# Altium schematic symbol library SCH - POWER - SWITCHMODE - 3PEAK TPP60508.SchLib: 1 symbol
Pins are listed as number, name and electrical type; pins without a type are passive.

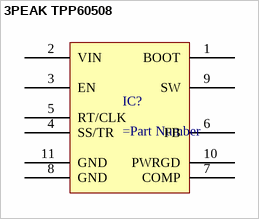
[diagram p0: symbol 3PEAK TPP60508]

## 3PEAK TPP60508
designator IC?
pins: 1 BOOT, 2 VIN, 3 EN, 4 SS/TR, 5 RT/CLK, 6 FB, 7 COMP, 8 GND, 9 SW, 10 PWRGD, 11 GND